# EAGLE library part MP1584EN-DC-DC-CONVERTOR (library mp1584)
FEATURES Wide 4.5V to 28V Operating Input Range Programmable Switching Frequency from 100kHz to 1.5MHz High-Efficiency Pulse Skipping Mode for Light Load Ceramic Capacitor Stable Internal Soft-Start Internally Set Current Limit without a Current Sensing Resistor Available in SOIC8E Package. APPLICATIONS High Voltage Power Conversion Automotive Systems Industrial Power Systems Distributed Power Systems
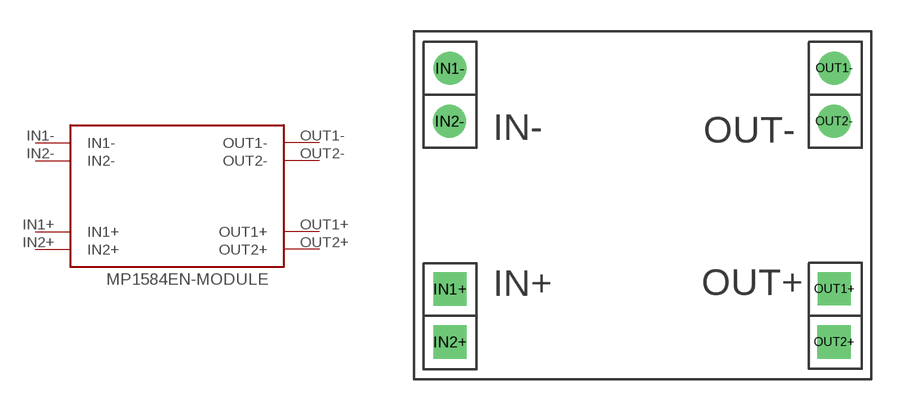
[diagram p0: symbol with the pads of DSUN_NEW; footprint DSUN_NEW]

Designator prefix -

## MP1584EN-DC-DC-CONVERTOR  [DSUN_NEW]
IN1+  IN1+
IN1-  IN1-
IN2+  IN2+
IN2-  IN2-
OUT1+  OUT1+
OUT1-  OUT1-
OUT2+  OUT2+
OUT2-  OUT2-

## Footprint DSUN_NEW (pad centres in mm)
DC-DC convertor using MP1584EN
drill 0.8 pad 1.59 square: IN1+ -9.4,-3.84; IN2+ -9.4,-6.38; OUT1+ 9.06,-3.83; OUT2+ 9.05,-6.38
drill 0.8 pad 1.59: IN1- -9.41,6.76; IN2- -9.43,4.22; OUT1- 9.06,6.77; OUT2- 9.05,4.22